# Altium schematic symbol library chwytak-schlib.SchLib: 2 symbols
Pins are listed as number, name and electrical type; pins without a type are passive.

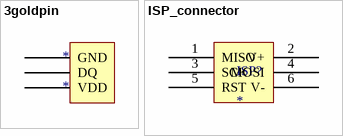
[diagram p0: symbols 3goldpin to ISP_connector]

## 3goldpin
designator *
footprint PCBComponent_1
pins: 1 GND, 2 DQ, 3 VDD

## ISP_connector
designator ISP?
pins: 1 MISO, 2 V+, 3 SCK, 4 MOSI, 5 RST, 6 V-